# EAGLE library part MICROSD_PADS (library vocore_dock)
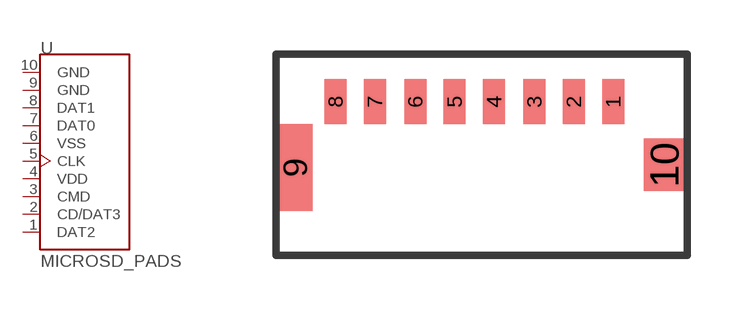
[diagram p2: symbol with the pads of MICROSD_PADS_1PRIMARY; footprint MICROSD_PADS_1PRIMARY]

Designator prefix -

## MICROSD_PADS  [MICROSD_PADS_1PRIMARY]
1  DAT2
2  CD/DAT3
3  CMD
4  VDD
5  CLK
6  VSS  pwr
7  DAT0
8  DAT1
9  GND  sup
10  GND  sup

## Footprint MICROSD_PADS_1PRIMARY (pad centres in mm)
Original name MICROSD_PADS http://www.molex.com/pdm_docs/sd/473093351_sd.pdf http://www.molex.com/webdocs/datasheets/pdf/en-us/0473093351_MEMORY_CARD_SOCKET.pdf
smd 0.61 x 1.245: 1 9.347,-1.321; 2 8.255,-1.321; 3 7.163,-1.321; 4 6.045,-1.321; 5 4.953,-1.321; 6 3.861,-1.321; 7 2.743,-1.321; 8 1.651,-1.321
smd 0.965 x 2.413: 9 0.533,-3.15
smd 1.143 x 1.448: 10 10.77,-3.073